# Altium footprint library RHDRV40W60P254_20X2_5100X500H850.PcbLib: 1 footprints
Each footprint in its own frame and in the unit in brackets; x right, y up, seen from the top. Pads: shape width x height; smd on the part's side, far side on the other; paste and mask are expansions set on the pad; w line width, h text height; cw(c..) or ccw(c..) is an arc to the next point about the centre after c.
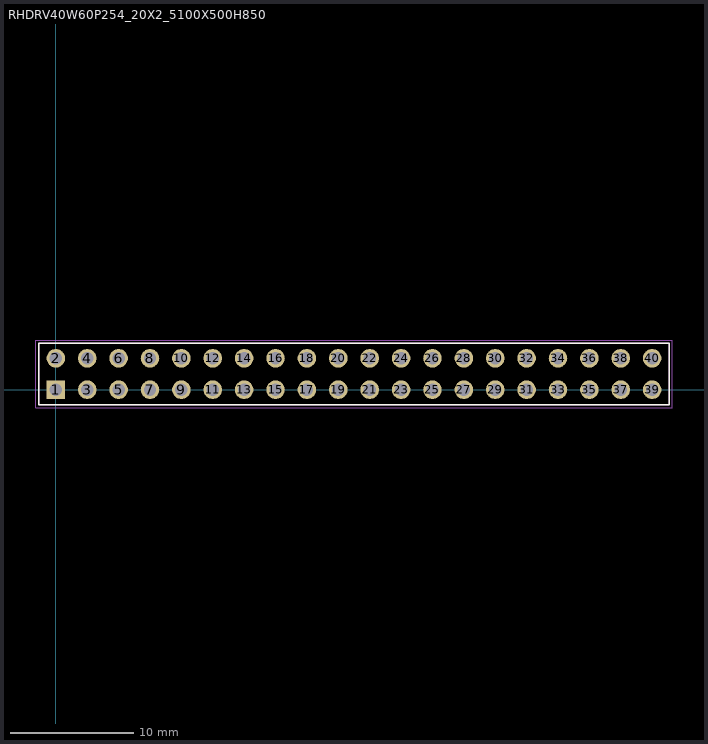
[diagram p0: the footprint, top view; thin cyan lines are the x and y axes]

## RHDRV40W60P254_20X2_5100X500H850 [mm] "Header, Vertical Receptacle, 2.54 mm pitch; 0.60 mm lead width, 40 pins, 2 rows, 20 pins per row, 51.00 mm L X 5.00 mm W X 8.50 mm H body"
height 8.5
pads (40):
  rect 1.5x1.5 / inner round 1.5 / far side rect 1.5x1.5 hole 1 paste-1.5: 1(0,0)
  round 1.5 hole 1 paste-1.5: 2(0,2.54) 3(2.54,0) 4(2.54,2.54) 5(5.08,0) 6(5.08,2.54) 7(7.62,0) 8(7.62,2.54) 9(10.16,0) 10(10.16,2.54) 11(12.7,0) 12(12.7,2.54) 13(15.24,0) 14(15.24,2.54) 15(17.78,0) 16(17.78,2.54) 17(20.32,0) 18(20.32,2.54) 19(22.86,0) 20(22.86,2.54) 21(25.4,0) 22(25.4,2.54) 23(27.94,0) 24(27.94,2.54) 25(30.48,0) 26(30.48,2.54) 27(33.02,0) 28(33.02,2.54) 29(35.56,0) 30(35.56,2.54) 31(38.1,0) 32(38.1,2.54) 33(40.64,0) 34(40.64,2.54) 35(43.18,0) 36(43.18,2.54) 37(45.72,0) 38(45.72,2.54) 39(48.26,0) 40(48.26,2.54)
Top Overlay:
  lines w0.12: -1.37,-1.23 49.63,-1.23 49.63,3.77 -1.37,3.77 -1.37,-1.23
Mechanical 3:
  lines w0.12: -1.37,-1.23 49.63,-1.23 49.63,3.77 -1.37,3.77 -1.37,-1.23
Mechanical 5:
  drawing of 164 lines, arcs and shapes, not listed
Mechanical 7:
  circle w0.05: c0,0 r0.25
  lines w0.05: -0.35,0 0.35,0 ; 0,-0.35 0,0.35 ; -1.62,-1.48 49.88,-1.48 49.88,4.02 -1.62,4.02 -1.62,-1.48
Mechanical 9:
  text "'.Designator'" at 5.3,1 h1
3D body: height 1, standoff 0, extent -1.62,-1.48 49.88,4.02
3D body "RHDRV40W60P254_20X2_5100X500H850.STEP": height 8.5, standoff -2, extent -1.37,-1.23 49.63,3.77